# Altium footprint library 蜂汇ZigBee模块封装图.PcbLib: 4 footprints
Each footprint in its own frame and in the unit in brackets; x right, y up, seen from the top. Pads: shape width x height; smd on the part's side, far side on the other; paste and mask are expansions set on the pad; w line width, h text height; cw(c..) or ccw(c..) is an arc to the next point about the centre after c.
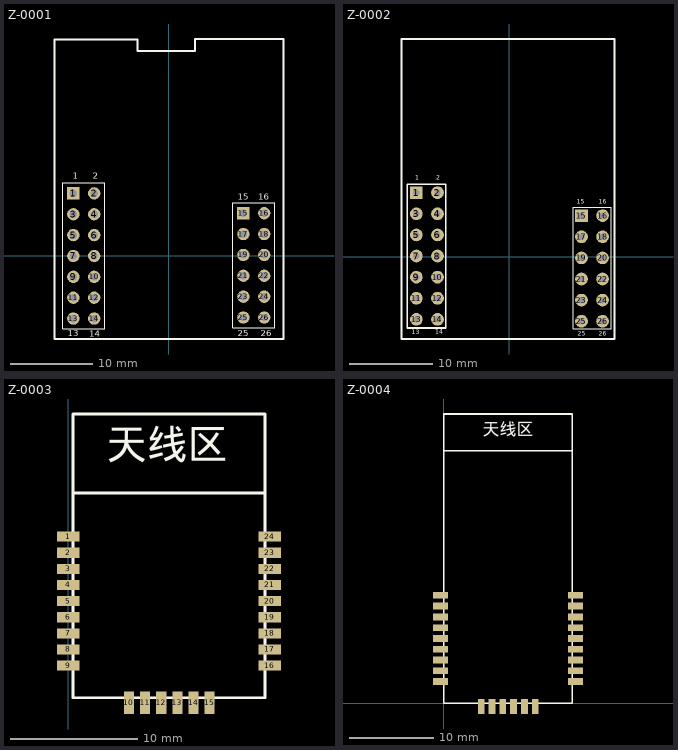
[diagram p0: the footprints below, top view; thin cyan lines are the x and y axes]

## Z-0001 [mm]
pads (26):
  rect 1.5x1.5 hole 0.9: 1(-11.62,7.62) 15(9.08,5.207)
  round 1.5 hole 0.9: 2(-9.08,7.62) 3(-11.62,5.08) 4(-9.08,5.08) 5(-11.62,2.54) 6(-9.08,2.54) 7(-11.62,0) 8(-9.08,0) 9(-11.62,-2.54) 10(-9.08,-2.54) 11(-11.62,-5.08) 12(-9.08,-5.08) 13(-11.62,-7.62) 14(-9.08,-7.62) 16(11.62,5.207) 17(9.08,2.667) 18(11.62,2.667) 19(9.08,0.127) 20(11.62,0.127) 21(9.08,-2.413) 22(11.62,-2.413) 23(9.08,-4.953) 24(11.62,-4.953) 25(9.08,-7.493) 26(11.62,-7.493)
Top Overlay:
  lines w0.127: -12.89,-8.89 -12.89,8.89 -7.81,8.89 -7.81,-8.89 -12.89,-8.89 ; 7.81,-8.763 12.89,-8.763 12.89,6.477 7.81,6.477 7.81,-8.763
  lines w0.254: -13.906,-10.109 13.957,-10.109 13.957,26.416 3.188,26.416 3.188,24.968 -3.823,24.968 -3.823,26.365 -13.906,26.365 -13.906,-10.109
  text "16" at 10.922,6.858 h0.76
  text "15" at 8.382,6.858 h0.76
  text "25" at 8.382,-9.779 h0.76
  text "26" at 11.176,-9.779 h0.76
  text "13" at -12.319,-9.779 h0.76
  text "14" at -9.665,-9.855 h0.76
  text "1" at -11.684,9.398 h0.76
  text "2" at -9.271,9.398 h0.76

## Z-0002 [mil]
pads (26):
  rect 60x60 hole 30: 1(-441,304.4) 15(341,195.6)
  round 60 hole 30: 2(-341,304.4) 3(-441,204.4) 4(-341,204.4) 5(-441,104.4) 6(-341,104.4) 7(-441,4.4) 8(-341,4.4) 9(-441,-95.6) 10(-341,-95.6) 11(-441,-195.6) 12(-341,-195.6) 13(-441,-295.6) 14(-341,-295.6) 16(441,195.6) 17(341,95.6) 18(441,95.6) 19(341,-4.4) 20(441,-4.4) 21(341,-104.4) 22(441,-104.4) 23(341,-204.4) 24(441,-204.4) 25(341,-304.4) 26(441,-304.4)
Top Overlay:
  lines w5: 301.6,-340.3 483.1,-340.3 483.1,236 301.6,236 301.6,-340.3
  lines w7.87: -484.8,-336.3 -484.8,344.3 -301.5,344.3 -301.5,-336.3 -484.8,-336.3
  lines w10: -511,-388.6 497,-388.6 497,1032.4 -511,1032.4 -511,-388.6
  text "16" at 424,251.4 h20
  text "15" at 319,251.4 h20
  text "25" at 324,-373.6 h20
  text "26" at 424,-373.6 h20
  text "13" at -461.8,-365.3 h20
  text "14" at -352,-364.7 h20
  text "1" at -446,366.4 h20
  text "2" at -346,366.4 h20

## Z-0003 [mil]
pads (24):
  rect 70x31.5 smd: 1(0,690) 2(0,640) 3(0,590) 4(0,540) 5(0,490) 6(0,440) 7(0,390) 8(0,340) 9(0,290) 16(625,290) 17(625,340) 18(625,390) 19(625,440) 20(625,490) 21(625,540) 22(625,590) 23(625,640) 24(625,690)
  rect 31.5x70 smd: 10(188.46,175) 11(238.46,175) 12(288.46,175) 13(338.46,175) 14(388.46,175) 15(438.46,175)
Top Overlay:
  lines w8: 15,825 610,825 ; 15,190 15,1070 610,1070 610,190 15,190
  text "天线区" at 120,900 h157.48

## Z-0004 [mil]
pads (24):
  rect 70x31.5 smd: 1(-15,500) 2(-15,450) 3(-15,400) 4(-15,350) 5(-15,300) 6(-15,250) 7(-15,200) 8(-15,150) 9(-15,100) 16(610,100) 17(610,150) 18(610,200) 19(610,250) 20(610,300) 21(610,350) 22(610,400) 23(610,450) 24(610,500)
  rect 31.5x70 smd: 10(173.46,-15) 11(223.46,-15) 12(273.46,-15) 13(323.46,-15) 14(373.46,-15) 15(423.46,-15)
Top Overlay:
  lines w8: 0,1169.29 595,1169.29 ; 0,1338.58 0,0 595,0 595,1338.58 ; 0,1340 595,1340
  text "天线区" at 180,1220 h98.43